# Altium footprint library TIDA-01576_ADS8686S_ISO_Interface.PcbLib: 67 footprints (part 4 of 5)
Each footprint in its own frame and in the unit in brackets; x right, y up, seen from the top. Pads: shape width x height; smd on the part's side, far side on the other; paste and mask are expansions set on the pad; w line width, h text height; cw(c..) or ccw(c..) is an arc to the next point about the centre after c.
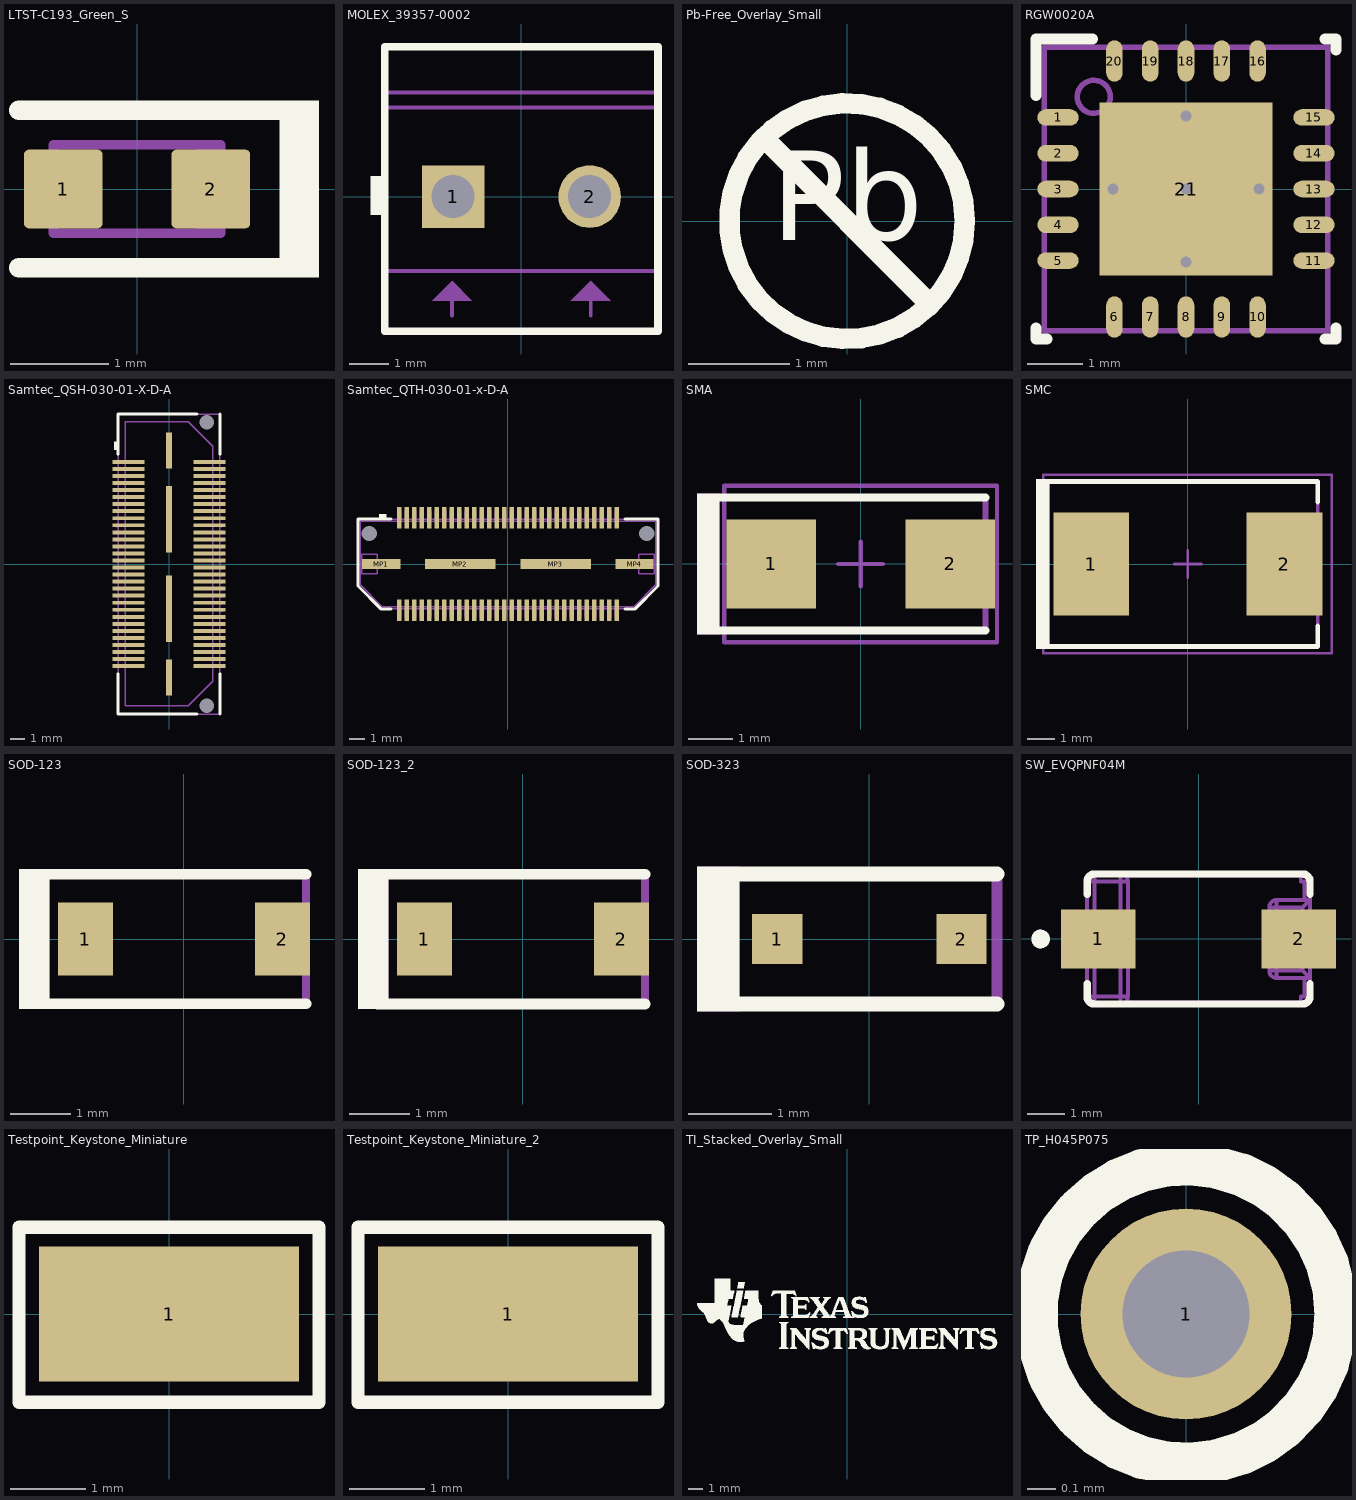
[diagram p3: the footprints below, top view; thin cyan lines are the x and y axes]

## LTST-C193_Green_S [mm] "SMD, 2-Leads, Body 1.6x0.8mm"
height 0.45
pads (2):
  rrect12% 0.8x0.8 smd: 1(-0.75,0) 2(0.75,0)
Top Overlay:
  rectangle: 1.45,-0.9 1.85,0.9
  lines w0.2: -1.2,-0.8 1.5,-0.8 ; -1.2,0.8 1.5,0.8
Mechanical 5:
  rectangle: 0.6,-0.45 0.85,0.45
  lines w0.1: -0.85,-0.45 0.85,-0.45 0.85,0.45 -0.85,0.45 -0.85,-0.45
  text ".Designator" at -0.75,-0.15 h0.32
3D body: height 0.18, standoff 0.01, extent -0.85,-0.45 0.85,0.45
3D body: height 0.01, standoff 0, extent -0.3,-0.45 0.3,0.45
3D body: height 0.01, standoff 0, extent 0.55,-0.45 0.85,0.45
3D body: height 0.01, standoff 0, extent -0.85,-0.45 -0.55,0.45
3D body: height 0.45, standoff 0.18, extent -0.575,-0.45 0.575,0.45
3D body: height 0.4, standoff 0.18, extent 0.15,-0.1 0.35,0.1

## MOLEX_39357-0002 [mm] "Terminal Block, 3.5 mm, 2x1, TH"
height 8.51
pads (2):
  rect 1.6x1.6 hole 1.1: 1(-1.75,0)
  round 1.6 hole 1.1: 2(1.75,0)
Top Overlay:
  region: -3.864,0.523 -3.864,-0.477 -3.509,-0.477 -3.509,0.523
  lines w0.2: -3.5,-3.45 -3.5,3.84 3.5,3.84 3.5,-3.45 -3.5,-3.45
Mechanical 5:
  region: -2.286,-2.667 -1.27,-2.667 -1.778,-2.159
  region: 1.27,-2.667 2.286,-2.667 1.778,-2.159
  lines w0.1: -3.5,-1.905 3.5,-1.905 ; -3.5,2.286 3.5,2.286 ; -3.5,2.667 3.5,2.667 ; -1.778,-3.048 -1.778,-2.667 ; 1.778,-3.048 1.778,-2.667 ; -3.5,-3.45 3.5,-3.45 3.5,3.84 -3.5,3.84 -3.5,-3.45
  text ".Designator" at -1.905,-0.508 h1.02
3D body "393570002.stp": height 8.51, standoff -3.5, extent -3.55,-3.45 3.562,3.84

## Pb-Free_Overlay_Small [mm]
Top Overlay:
  circle w0.203: c0,0 r1.168
  lines w0.203: -0.826,0.826 0.826,-0.826
  text "Pb" at -0.752,-0.48 h1.52

## RGW0020A [mm] "QFN, 20-Leads, Body 5x5mm, Pitch 0.65mm, Thermal Pad 3.15x3.15mm, TI Recommended"
height 1
pads (21):
  oval 0.75x0.3 smd: 1(-2.325,1.3) 2(-2.325,0.65) 3(-2.325,0) 4(-2.325,-0.65) 5(-2.325,-1.3) 11(2.325,-1.3) 12(2.325,-0.65) 13(2.325,0) 14(2.325,0.65) 15(2.325,1.3)
  oval 0.3x0.75 smd: 6(-1.3,-2.325) 7(-0.65,-2.325) 8(0,-2.325) 9(0.65,-2.325) 10(1.3,-2.325) 16(1.3,2.325) 17(0.65,2.325) 18(0,2.325) 19(-0.65,2.325) 20(-1.3,2.325)
  rect 3.15x3.15 smd paste-1.575: 21(0,0)
via 0,1.325 diameter 0.5 hole 0.2
via -1.325,0 diameter 0.5 hole 0.2
via 0,0 diameter 0.5 hole 0.2
via 0,-1.325 diameter 0.5 hole 0.2
via 1.325,0 diameter 0.5 hole 0.2
Top Overlay:
  lines w0.2: -2.725,-2.525 -2.725,-2.725 -2.525,-2.725 ; -2.725,1.7 -2.725,2.725 -1.7,2.725 ; 2.525,-2.725 2.725,-2.725 2.725,-2.525 ; 2.525,2.725 2.725,2.725 2.725,2.525
Top Paste:
  rectangle: 0.1,0.1 1.468,1.468
  region: -0.1,1.468 -1.468,1.468 -1.468,0.1 -0.1,0.1
  region: -0.1,-0.1 -1.468,-0.1 -1.468,-1.468 -0.1,-1.468
  rectangle: 0.1,-1.468 1.468,-0.1
Mechanical 5:
  circle w0.1: c-1.675,1.675 r0.3
  lines w0.1: -2.575,-2.575 -2.575,2.575 2.575,2.575 2.575,-2.575 -2.575,-2.575
  text ".Designator" at -1.854,-0.508 h1.02
3D body: height 1, standoff 0, extent -2.575,-2.575 2.575,2.575
3D body: height 1.01, standoff 0.5, extent -1.974,1.376 -1.376,1.974

## Samtec_QSH-030-01-X-D-A [mm] "Receptacle, 0.5 mm, 30x2, TH"
height 3.327
pads (66):
  rect 2.27x0.279 smd: 1(-2.865,7.25) 2(2.865,7.25) 3(-2.865,6.75) 4(2.865,6.75) 5(-2.865,6.25) 6(2.865,6.25) 7(-2.865,5.75) 8(2.865,5.75) 9(-2.865,5.25) 10(2.865,5.25) 11(-2.865,4.75) 12(2.865,4.75) 13(-2.865,4.25) 14(2.865,4.25) 15(-2.865,3.75) 16(2.865,3.75) 17(-2.865,3.25) 18(2.865,3.25) 19(-2.865,2.75) 20(2.865,2.75) 21(-2.865,2.25) 22(2.865,2.25) 23(-2.865,1.75) 24(2.865,1.75) 25(-2.865,1.25) 26(2.865,1.25) 27(-2.865,0.75) 28(2.865,0.75) 29(-2.865,0.25) 30(2.865,0.25) 31(-2.865,-0.25) 32(2.865,-0.25) 33(-2.865,-0.75) 34(2.865,-0.75) 35(-2.865,-1.25) 36(2.865,-1.25) 37(-2.865,-1.75) 38(2.865,-1.75) 39(-2.865,-2.25) 40(2.865,-2.25) 41(-2.865,-2.75) 42(2.865,-2.75) 43(-2.865,-3.25) 44(2.865,-3.25) 45(-2.865,-3.75) 46(2.865,-3.75) 47(-2.865,-4.25) 48(2.865,-4.25) 49(-2.865,-4.75) 50(2.865,-4.75) 51(-2.865,-5.25) 52(2.865,-5.25) 53(-2.865,-5.75) 54(2.865,-5.75) 55(-2.865,-6.25) 56(2.865,-6.25) 57(-2.865,-6.75) 58(2.865,-6.75) 59(-2.865,-7.25) 60(2.865,-7.25)
  round 0 hole 1.02 unplated: MH1(2.67,10.065) MH2(2.67,-10.065)
  rect 0.43x2.54 smd: MP1(0,8.065) MP4(0,-8.065)
  rect 0.43x4.7 smd: MP2(0,3.175) MP3(0,-3.175)
Top Overlay:
  rectangle: -3.9,8.1 -3.62,8.7
  lines w0.2: -3.62,-7.789 -3.62,-10.655 2,-10.655 ; -3.62,7.789 -3.62,10.655 2,10.655 ; 3.62,-10.655 3.62,-7.789 ; 3.62,7.789 3.62,10.655
Mechanical 5:
  drawing of 190 lines, arcs and shapes, not listed
  text ".Designator" at -1.524,-0.508 h1.02
3D body "Samtec-QSH-030-01-L-D-A.stp": height 3.25, standoff -0.75, extent -3.746,-10.636 3.747,10.674

## Samtec_QTH-030-01-x-D-A [mil] "Header (Shrouded), 19.7mil, 30x2, SMT"
height 162
pads (66):
  rect 12x57 smd: 1(-285.7,121.5) 2(-285.7,-121.5) 3(-266,121.5) 4(-266,-121.5) 5(-246.3,121.5) 6(-246.3,-121.5) 7(-226.6,121.5) 8(-226.6,-121.5) 9(-206.9,121.5) 10(-206.9,-121.5) 11(-187.2,121.5) 12(-187.2,-121.5) 13(-167.5,121.5) 14(-167.5,-121.5) 15(-147.8,121.5) 16(-147.8,-121.5) 17(-128.1,121.5) 18(-128.1,-121.5) 19(-108.4,121.5) 20(-108.4,-121.5) 21(-88.7,121.5) 22(-88.7,-121.5) 23(-69,121.5) 24(-69,-121.5) 25(-49.3,121.5) 26(-49.3,-121.5) 27(-29.6,121.5) 28(-29.6,-121.5) 29(-9.9,121.5) 30(-9.9,-121.5) 31(9.8,121.5) 32(9.8,-121.5) 33(29.5,121.5) 34(29.5,-121.5) 35(49.2,121.5) 36(49.2,-121.5) 37(68.9,121.5) 38(68.9,-121.5) 39(88.6,121.5) 40(88.6,-121.5) 41(108.3,121.5) 42(108.3,-121.5) 43(128,121.5) 44(128,-121.5) 45(147.7,121.5) 46(147.7,-121.5) 47(167.4,121.5) 48(167.4,-121.5) 49(187.1,121.5) 50(187.1,-121.5) 51(206.8,121.5) 52(206.8,-121.5) 53(226.5,121.5) 54(226.5,-121.5) 55(246.2,121.5) 56(246.2,-121.5) 57(265.9,121.5) 58(265.9,-121.5) 59(285.6,121.5) 60(285.6,-121.5)
  round 0 hole 40 unplated: MH1(-364,80) MH2(364,80)
  rect 100x25 smd: MP1(-332.7,0) MP4(332.3,0)
  rect 185x25 smd: MP2(-125.2,0) MP3(124.8,0)
Top Overlay:
  rectangle: -338.67,118.11 -318.9,131.28
  lines w7.87: -307,-117.5 -333.75,-117.5 -393.75,-57.5 -393.75,20 -393.75,117.5 -307,117.5 ; 307,-117.5 333.75,-117.5 393.75,-57.5 393.75,20 393.75,117.5 307,117.5
Mechanical 5:
  drawing of 212 lines, arcs and shapes, not listed
  text ".Designator" at -118.11,-11.33 h40
3D body "Samtec-QTH-030-01-L-D-A.stp": height 170.01, standoff -27, extent -393.75,-140 393.75,140

## SMA [mm] "Molded Diode, 2-Leads, Body 4.3x2.6mm, IPC Medium Density, based on OnSemi component dimensions and land pattern"
height 2.27
pads (2):
  rect 2x2 smd: 1(-2,0) 2(2,0)
Top Overlay:
  rectangle: -3.658,-1.575 -3.15,1.575
  lines w0.178: -3.327,-1.486 2.794,-1.486 ; -3.327,1.486 2.794,1.486
Mechanical 5:
  rectangle: -3.658,-1.575 -3.15,1.575
  lines w0.127: -3.327,-1.486 2.794,-1.486 2.794,1.486 -3.327,1.486
  text ".Designator" at -2.769,-0.33 h1.02
Mechanical 15:
  lines w0.1: -0.5,0 0.5,0 ; 0,-0.5 0,0.5 ; -3.05,-1.75 -3.05,1.75 3.05,1.75 3.05,-1.75 -3.05,-1.75
3D body "SMA_nominal.stp": height 2.42, standoff 0.02, extent -2.6,-1.3 2.6,1.3

## SMC [mil] "Molded Diode, 2-Leads, Body 6.9x5.8mm, IPC Medium Density, based on OnSemi component dimensions and land patterns"
height 94.88
pads (2):
  rect 110x150 smd: 1(-140.49,0) 2(140.49,0)
Top Overlay:
  rectangle: -221,-123.5 -201,123.5
  lines w7: -210,-120 189,-120 189,-90.25 ; -210,120 189,120 189,90.25
Mechanical 5:
  rectangle: -221,-123.5 -201,123.5
  lines w5: -210,-120 189,-120 189,120 -210,120
  text ".Designator" at -85,-20 h40
Mechanical 15:
  lines w3.94: -19.69,0 19.68,0 ; 0,-19.68 0,19.68 ; -210.46,-129.92 209.38,-129.92 209.38,129.92 -210.46,129.92 -210.46,-129.92
3D body "SMC_nominal.stp": height 91.35, standoff 0.6, extent -156.49,-116.13 156.5,116.15

## SOD-123 [mm] "On Semi recommended land pattern"
height 1.35
pads (2):
  rect 0.915x1.22 smd: 1(-1.637,0) 2(1.637,0)
Top Overlay:
  rectangle: -2.743,-1.168 -2.235,1.168
  lines w0.178: -2.413,-1.079 2.032,-1.079 ; -2.413,1.079 2.032,1.079
Mechanical 5:
  rectangle: -2.743,-1.168 -2.235,1.168
  lines w0.127: -2.413,-1.079 2.032,-1.079 2.032,1.079 -2.413,1.079
  text ".Designator" at -1.956,-0.33 h0.76
3D body "SOD-123.stp": height 1.35, standoff 0, extent -1.932,-0.9 1.932,0.9

## SOD-123_2 [mm]
pads (2):
  rect 0.915x1.22 smd: 1(-1.637,0) 2(1.637,0)
Top Overlay:
  rectangle: -2.743,-1.168 -2.235,1.169
  lines w0.178: -2.413,-1.079 2.032,-1.079 ; -2.413,1.079 2.032,1.079
Mechanical 5:
  rectangle: -2.743,-1.168 -2.235,1.169
  lines w0.127: -2.413,-1.079 2.032,-1.079 2.032,1.079 -2.413,1.079
  text ".Designator" at -1.956,-0.33 h0.76
3D body "SOD-123.stp": height 1.35, standoff 0, extent -1.932,-0.9 1.932,0.9

## SOD-323 [mm] "NXP recommended land pattern"
height 1.15
pads (2):
  rect 0.6x0.6 smd paste-0.05: 1(-1.1,0) 2(1.1,0)
Top Overlay:
  rectangle: -2.057,-0.864 -1.549,0.864
  lines w0.178: -1.803,-0.775 0.1,-0.775 1.525,-0.775 ; -1.803,0.775 0.1,0.775 1.525,0.775
Mechanical 5:
  rectangle: -2.057,-0.864 -1.549,0.864
  lines w0.127: -1.803,-0.775 0.1,-0.775 1.525,-0.775 1.525,0.775 0.1,0.775 -1.803,0.775
  text ".Designator" at -1.4,-0.275 h0.76
3D body "SOD-323.stp": height 1.1, standoff 0, extent -1.3,-0.675 1.3,0.675

## SW_EVQPNF04M [mm] "SMD, 2-Leads, Body 6x4mm"
height 4.5
pads (2):
  rect 2x1.6 smd: 1(-2.7,0) 2(2.7,0)
Top Overlay:
  circle w0.25: c-4.25,0 r0.125
  lines w0.2: -3,-1.2 -3,-1.55 ccw(c-2.8,-1.55) -2.8,-1.75 -2.1,-1.75 2.8,-1.75 ccw(c2.8,-1.55) 3,-1.55 3,-1.2 ; -3,1.2 -3,1.55 cw(c-2.8,1.55) -2.8,1.75 -2.1,1.75 2.8,1.75 cw(c2.8,1.55) 3,1.55 3,1.2
Mechanical 5:
  drawing of 477 lines, arcs and shapes, not listed
  text ".Designator" at -1.7,-0.4 h0.9
3D body "EVQ-PE104K_PNF04M_5PN04K.stp": height 4.3, standoff 0, extent -3.6,-1.75 3.6,1.75

## Testpoint_Keystone_Miniature [mil] "Miniature SMT test point"
height 90.55
pads (1):
  rect 135x70 smd: 1(0,0)
Top Overlay:
  lines w7: -78,-46 -78,-38 -78,45 -65,45 5,45 78,45 78,-46 -78,-46
Mechanical 5:
  lines w5: -78,-46 78,-46 78,45 5,45 -65,45 -78,45 -78,-38 -78,-46
  text ".Designator" at -60,-15 h40
3D body "keystone_5015.stp": height 60.6, standoff 0.6, extent -52.5,-20 52.5,20

## Testpoint_Keystone_Miniature_2 [mil]
pads (1):
  rect 135x70 smd: 1(0,0)
Top Overlay:
  lines w7: -78,-46 78,-46 78,45 5,45 -65,45 -78,45 -78,-38 -78,-46
Mechanical 5:
  lines w5: -78,-46 -78,-38 -78,45 -65,45 5,45 78,45 78,-46 -78,-46
  text ".Designator" at -60,-15 h40
3D body "keystone_5015.stp": height 60.6, standoff 0.6, extent -52.5,-20 52.5,20

## TI_Stacked_Overlay_Small [mm]
Top Overlay:
  drawing of 18 lines, arcs and shapes, not listed

## TP_H045P075 [mm] "TP_H0.45P0.75"
height 1.75
pads (1):
  round 0.75 hole 0.45: 1(0,0)
Top Overlay:
  circle w0.152: c0,0 r0.533